# EAGLE library part AD9833 (library ad983x)
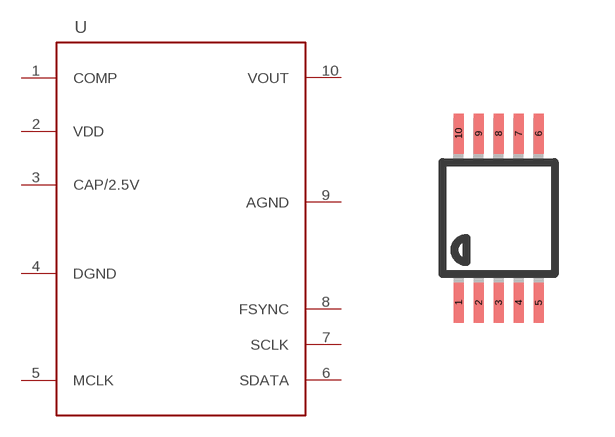
[diagram p1: symbol with the pads of MSOP10; footprint MSOP10]

Designator prefix -

## AD9833*  [MSOP10]
1  COMP  in
2  VDD  pwr
3  CAP/2.5V
4  DGND  pwr
5  MCLK  in
6  SDATA  in
7  SCLK  in
8  FSYNC  in
9  AGND  pwr
10  VOUT  out

## Footprint MSOP10 (pad centres in mm)
smd 0.25 x 1: 1 -1,-2.113; 2 -0.5,-2.113; 3 0,-2.113; 4 0.5,-2.113; 5 1,-2.113; 6 1,2.113; 7 0.5,2.113; 8 0,2.113; 9 -0.5,2.113; 10 -1,2.113